# EAGLE library part HDMI_MALE (library hdmi)
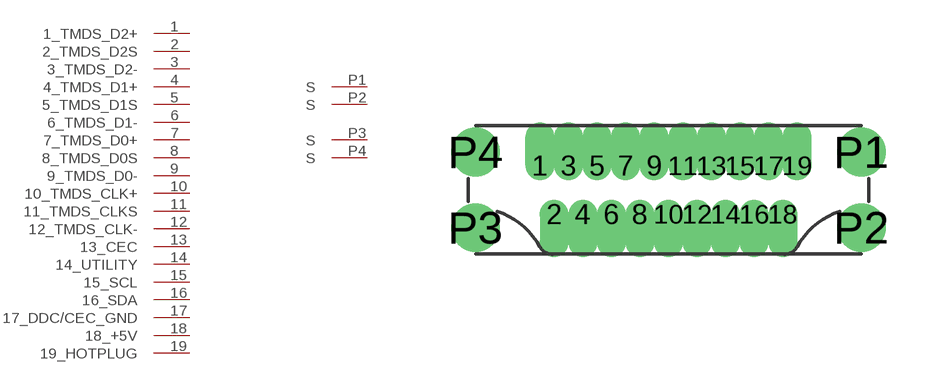
[diagram p0: symbol with the pads of HDMI-MALE; footprint HDMI-MALE]

Designator prefix CON; gates C=HDMI19 S1=SHEILD S2=SHEILD S3=SHEILD S4=SHEILD

## HDMI_MALE  [HDMI-MALE]
1  C:1_TMDS_D2+  pas
2  C:2_TMDS_D2S  pas
3  C:3_TMDS_D2-  pas
4  C:4_TMDS_D1+  pas
5  C:5_TMDS_D1S  pas
6  C:6_TMDS_D1-  pas
7  C:7_TMDS_D0+  pas
8  C:8_TMDS_D0S  pas
9  C:9_TMDS_D0-  pas
10  C:10_TMDS_CLK+  pas
11  C:11_TMDS_CLKS  pas
12  C:12_TMDS_CLK-  pas
13  C:13_CEC  pas
14  C:14_UTILITY  pas
15  C:15_SCL  pas
16  C:16_SDA  pas
17  C:17_DDC/CEC_GND  pas
18  C:18_+5V  pas
19  C:19_HOTPLUG  pas
P1  S1:S  pas
P2  S2:S  pas
P3  S3:S  pas
P4  S4:S  pas

## Footprint HDMI-MALE (pad centres in mm)
drill 0.5 pad 0.8 offset: 1 -4.5,0.85; 2 -4,-0.85; 3 -3.5,0.85; 4 -3,-0.85; 5 -2.5,0.85; 6 -2,-0.85; 7 -1.5,0.85; 8 -1,-0.85; 9 -0.5,0.85; 10 0,-0.85; 11 0.5,0.85; 12 1,-0.85; 13 1.5,0.85; 14 2,-0.85; 15 2.5,0.85; 16 3,-0.85; 17 3.5,0.85; 18 4,-0.85; 19 4.5,0.85
drill 1.1 pad 1.7: P1 6.75,1.325; P2 6.75,-1.325; P3 -6.75,-1.325; P4 -6.75,1.325